# EAGLE library part PCM5102A (library POCKETBEAGLE-POD)
TI PCM5102A By Logan Baldridge
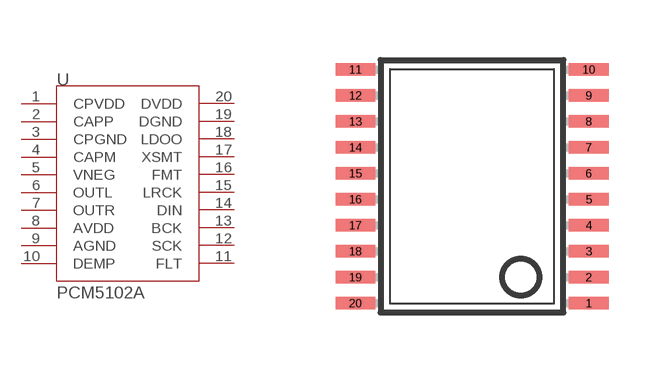
[diagram p1: symbol with the pads of PCM5102A; footprint PCM5102A]

Designator prefix -

## PCM5102A  [PCM5102A]
1  CPVDD  pwr
2  CAPP  out
3  CPGND
4  CAPM  out
5  VNEG  out
6  OUTL  out
7  OUTR  out
8  AVDD  pwr
9  AGND
10  DEMP  in
11  FLT  in
12  SCK  in
13  BCK  in
14  DIN  in
15  LRCK  in
16  FMT  in
17  XSMT  in
18  LDOO  pwr
19  DGND
20  DVDD  pwr

## Footprint PCM5102A (pad centres in mm)
smd 0.991 x 0.305: 1 2.918,-2.925; 2 2.918,-2.275; 3 2.918,-1.625; 4 2.918,-0.975; 5 2.918,-0.325; 6 2.918,0.325; 7 2.918,0.975; 8 2.918,1.625; 9 2.918,2.275; 10 2.918,2.925; 11 -2.918,2.925; 12 -2.918,2.275; 13 -2.918,1.625; 14 -2.918,0.975; 15 -2.918,0.325; 16 -2.918,-0.325; 17 -2.918,-0.975; 18 -2.918,-1.625; 19 -2.918,-2.275; 20 -2.918,-2.925